# Altium footprint library TSSOP-16.PcbLib: 1 footprints
Each footprint in its own frame and in the unit in brackets; x right, y up, seen from the top. Pads: shape width x height; smd on the part's side, far side on the other; paste and mask are expansions set on the pad; w line width, h text height; cw(c..) or ccw(c..) is an arc to the next point about the centre after c.
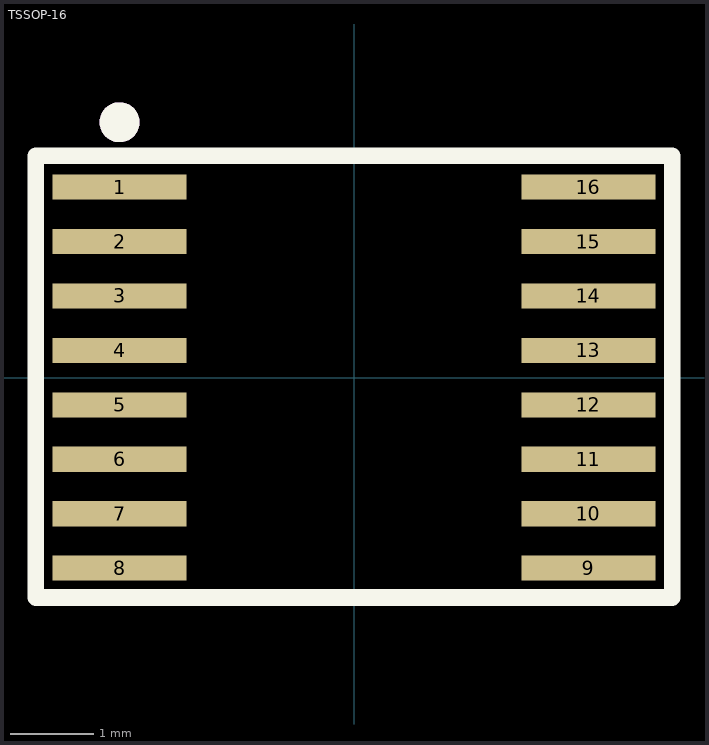
[diagram p0: the footprint, top view; thin cyan lines are the x and y axes]

## TSSOP-16 [mm]
pads (16):
  rect 1.6x0.3 smd: 1(-2.8,2.275) 2(-2.8,1.625) 3(-2.8,0.975) 4(-2.8,0.325) 5(-2.8,-0.325) 6(-2.8,-0.975) 7(-2.8,-1.625) 8(-2.8,-2.275) 9(2.8,-2.275) 10(2.8,-1.625) 11(2.8,-0.975) 12(2.8,-0.325) 13(2.8,0.325) 14(2.8,0.975) 15(2.8,1.625) 16(2.8,2.275)
Top Overlay:
  circle w0.254: c-2.8,3.05 r0.112
  lines w0.2: -3.8,-2.625 -3.8,2.65 3.8,2.65 3.8,-2.625 -3.8,-2.625
Top Assembly:
  circle w0.254: c-2.8,3.05 r0.112
  lines w0.1: -3.8,-2.625 3.8,-2.625 3.8,2.65 -3.8,2.65 -3.8,-2.625
  text "'.Designator'" at -3.965,-0.292 h0.7
3D body "User Library-Tssop16-5.step": height 1.06, standoff -0.01, extent -3.25,-2.55 3.25,2.55